# EAGLE library part LM2675M-ADJ (library stabilizatory)
VOLTAGE REGULATOR
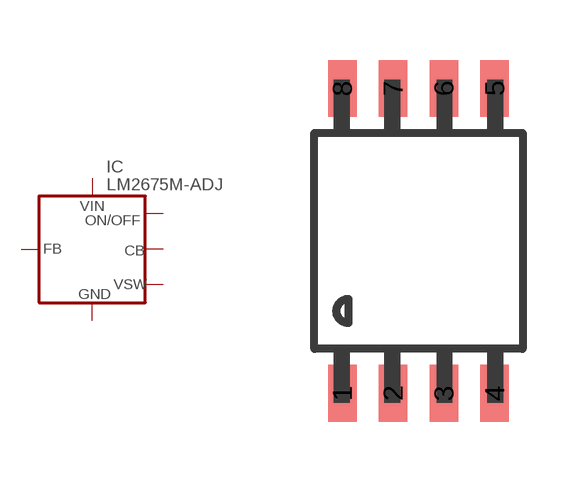
[diagram p24: symbol with the pads of SO8; footprint SO8]

Designator prefix IC

## LM2675M-ADJ  [SO8]
1  CB  in
4  FB  in
5  ON/OFF  in
6  GND  in
7  VIN  in
8  VSW  pas

## Footprint SO8 (pad centres in mm)
SO8 Package
smd 0.711 x 1.422: 1 -1.905,-3.81; 2 -0.635,-3.81; 3 0.635,-3.81; 4 1.905,-3.81; 5 1.905,3.81; 6 0.635,3.81; 7 -0.635,3.81; 8 -1.905,3.81